# Altium schematic symbol library Filter.SchLib: 10 symbols
Pins are listed as number, name and electrical type; pins without a type are passive.

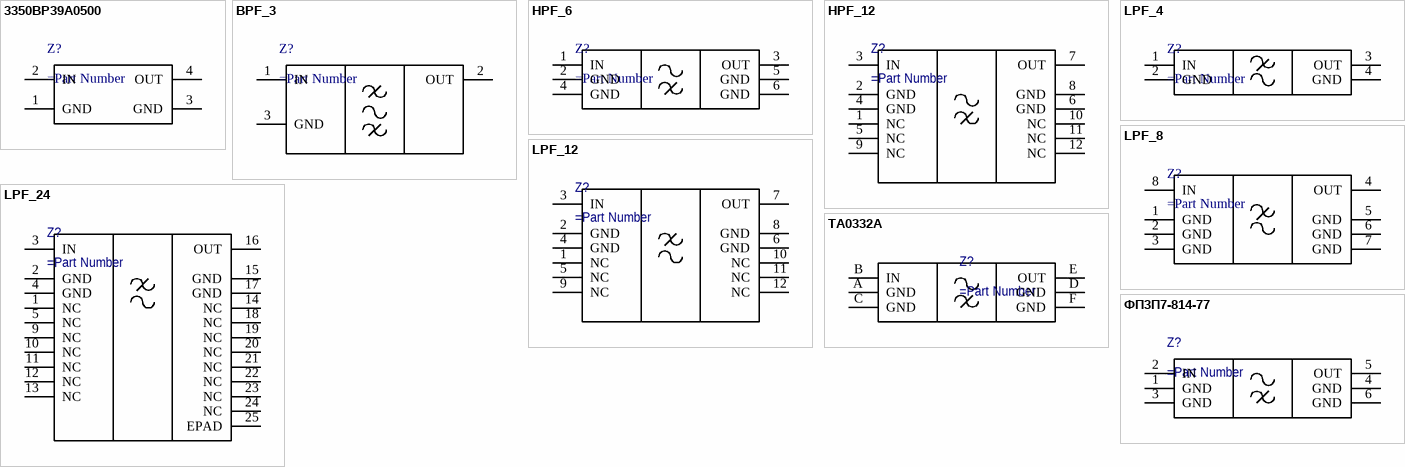
[diagram p0: symbols 3350BP39A0500 to ФП3П7-814-77]

## 3350BP39A0500
designator Z?
pins: 1 GND, 2 IN, 3 GND, 4 OUT

## BPF_3
designator Z?
pins: 1 IN, 2 OUT, 3 GND

## HPF_6
designator Z?
pins: 1 IN, 2 GND, 3 OUT, 4 GND, 5 GND, 6 GND

## HPF_12
designator Z?
pins: 1 NC, 2 GND, 3 IN, 4 GND, 5 NC, 6 GND, 7 OUT, 8 GND, 9 NC, 10 NC, 11 NC, 12 NC

## LPF_4
designator Z?
pins: 1 IN, 2 GND, 3 OUT, 4 GND

## LPF_8
designator Z?
pins: 1 GND, 2 GND, 3 GND, 4 OUT, 5 GND, 6 GND, 7 GND, 8 IN

## LPF_12
designator Z?
pins: 1 NC, 2 GND, 3 IN, 4 GND, 5 NC, 6 GND, 7 OUT, 8 GND, 9 NC, 10 NC, 11 NC, 12 NC

## LPF_24
designator Z?
pins: 1 NC, 2 GND, 3 IN, 4 GND, 5 NC, 9 NC, 10 NC, 11 NC, 12 NC, 13 NC, 14 NC, 15 GND, 16 OUT, 17 GND, 18 NC, 19 NC, 20 NC, 21 NC, 22 NC, 23 NC, 24 NC, 25 EPAD

## TA0332A
designator Z?
pins: A GND, B IN, C GND, D GND, E OUT, F GND

## ФП3П7-814-77
designator Z?
pins: 1 GND, 2 IN, 3 GND, 4 GND, 5 OUT, 6 GND